# Altium footprint library NUC120全功能主板.PcbLib: 25 footprints (part 1 of 2)
Each footprint in its own frame and in the unit in brackets; x right, y up, seen from the top. Pads: shape width x height; smd on the part's side, far side on the other; paste and mask are expansions set on the pad; w line width, h text height; cw(c..) or ccw(c..) is an arc to the next point about the centre after c.
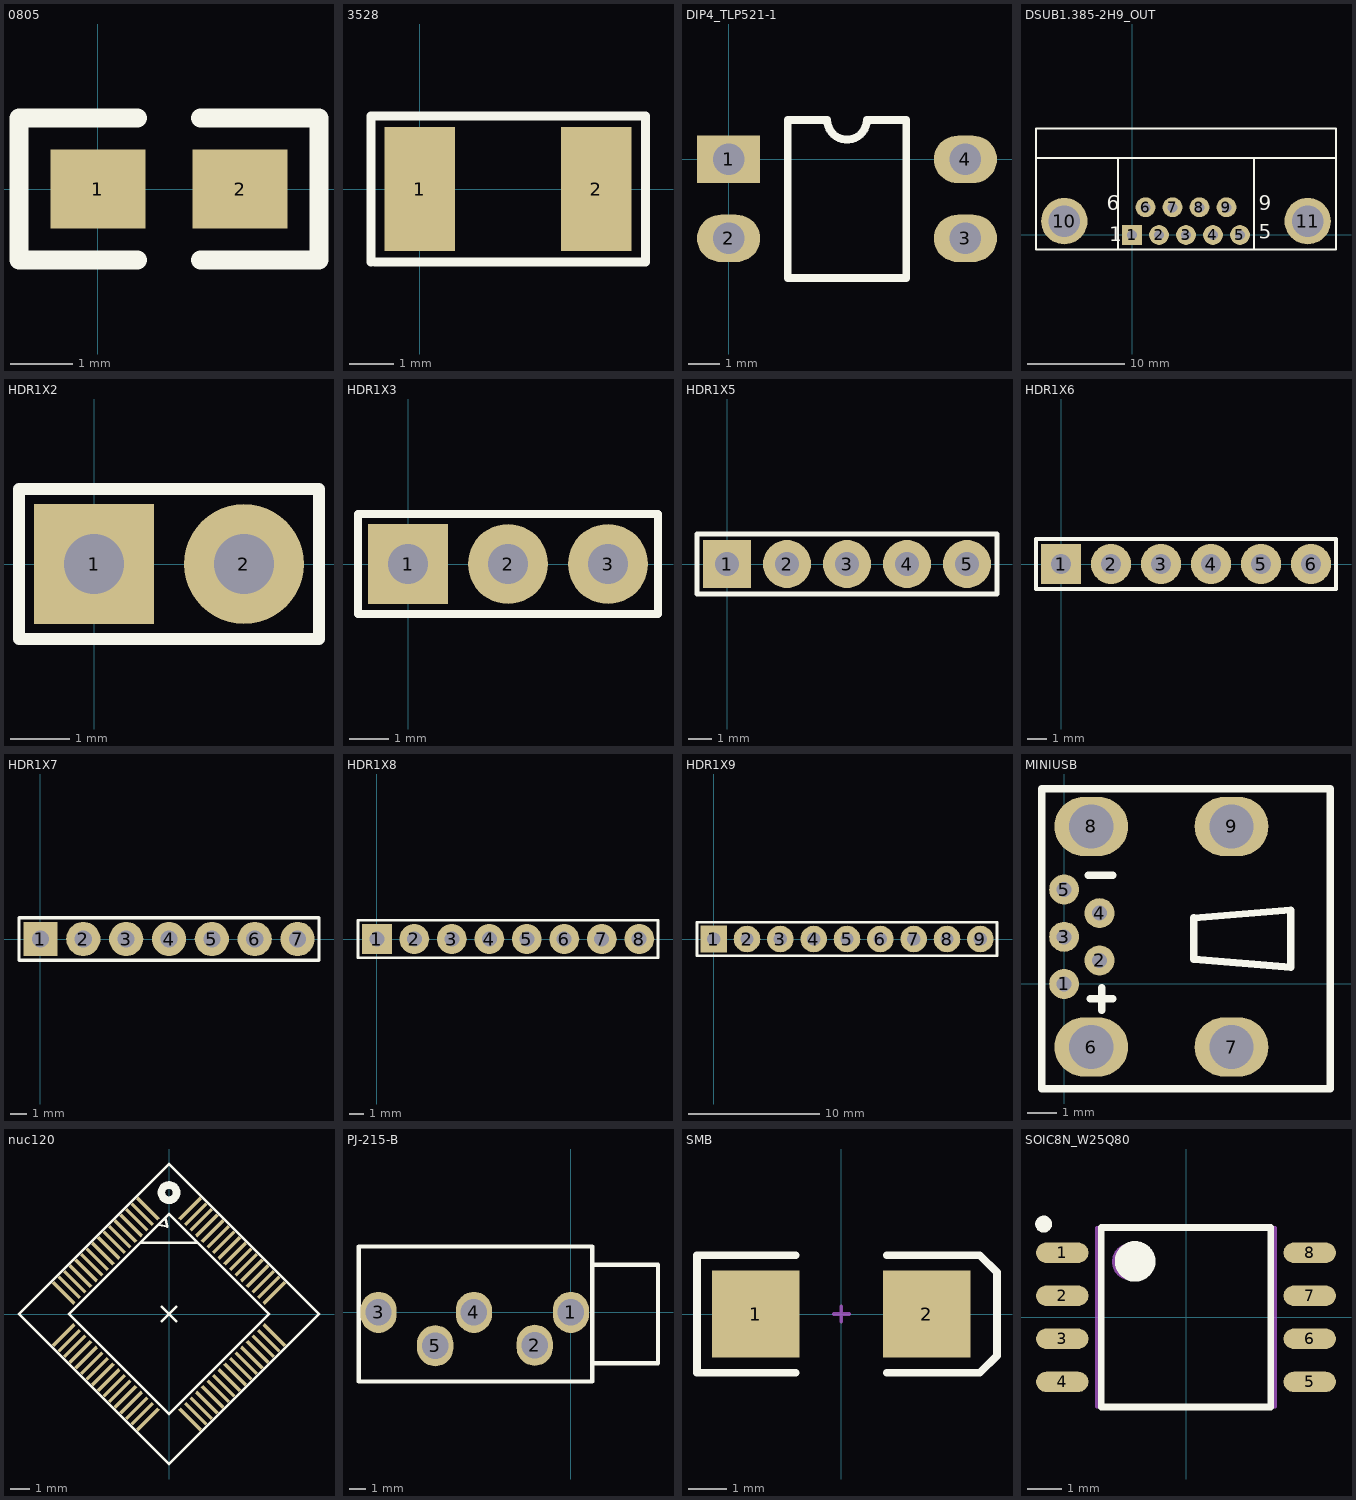
[diagram p0: the footprints below, top view; thin cyan lines are the x and y axes]

## 0805 [mil]
pads (2):
  rect 60x50 smd: 1(0,0) 2(90,0)
Top Overlay:
  lines w12: 25,-45 -50,-45 -50,45 25,45 ; 65,-45 140,-45 140,45 65,45

## 3528 [mm] "Chip Resistor; Body 3.2 x 2.5 mm (LxW typ)"
height 0.6
pads (2):
  rect 1.6x2.8 smd: 1(0,0) 2(4,0)
Top Overlay:
  lines w0.2: -1.105,-1.651 -1.105,1.651 5.08,1.651 ; -1.016,-1.651 5.08,-1.651 ; 5.118,-1.651 5.118,1.651

## DIP4_TLP521-1 [mil]
pads (4):
  rect 80x60 hole 40: 1(0,0)
  oval 80x60 hole 40: 2(0,-100) 3(300,-100) 4(300,0)
Top Overlay:
  lines w10: 75,-150 225,-150 225,50 175,50 cw(c150,50) 125,50 75,50 75,-150

## DSUB1.385-2H9_OUT [mil] "Connector; D Subminiature; 9 Position; Right Angle; Pitch 1.385 mm"
height 501.97
pads (11):
  rect 80x80 hole 40: 1(0,0)
  round 80 hole 40: 2(109.06,0) 3(218.11,0) 4(327.17,0) 5(436.22,0) 6(54.53,111.81) 7(163.58,111.81) 8(272.64,111.81) 9(381.69,111.81)
  round 187.4 hole 128.35: 10(-273.82,55.91) 11(710.04,55.91)
Top Overlay:
  lines w7.87: -388.19,311.81 824.41,311.81 ; -57.48,-58.27 -57.48,311.81 ; 493.7,-58.27 493.7,311.81 ; -388.19,-58.27 824.41,-58.27 824.41,429.92 -388.19,429.92 -388.19,-58.27
  text "6" at -101.89,99.92 h59.06
  text "9" at 513.11,99.92 h59.06
  text "5" at 513.11,-15.08 h59.06
  text "1" at -91.89,-25.08 h59.06

## HDR1X2 [mil] "Connector; Header; 2 Position"
pads (2):
  rect 80x80 hole 40: 1(0,0)
  round 80 hole 40: 2(100,0)
Top Overlay:
  lines w7.87: -50,-50 150,-50 150,50 -50,50 -50,-50

## HDR1X3 [mil] "Connector; Header; 3 Position"
pads (3):
  rect 80x80 hole 40: 1(0,0)
  round 80 hole 40: 2(100,0) 3(200,0)
Top Overlay:
  lines w7.87: -50,-50 -50,50 250,50 250,-50 -50,-50

## HDR1X5 [mil] "Connector; Header; 5 Position"
pads (5):
  rect 80x80 hole 40: 1(0,0)
  round 80 hole 40: 2(100,0) 3(200,0) 4(300,0) 5(400,0)
Top Overlay:
  lines w7.87: -50,-50 -50,50 450,50 450,-50 -50,-50

## HDR1X6 [mil] "Connector; Header; 6 Position"
pads (6):
  rect 80x80 hole 40: 1(0,0)
  round 80 hole 40: 2(100,0) 3(200,0) 4(300,0) 5(400,0) 6(500,0)
Top Overlay:
  lines w7.87: -50,-50 550,-50 550,50 -50,50 -50,-50

## HDR1X7 [mil] "Connector; Header; 7 Position"
pads (7):
  rect 80x80 hole 40: 1(0,0)
  round 80 hole 40: 2(100,0) 3(200,0) 4(300,0) 5(400,0) 6(500,0) 7(600,0)
Top Overlay:
  lines w7.87: -50,-50 650,-50 650,50 -50,50 -50,-50

## HDR1X8 [mil] "Connector; Header; 8 Position"
pads (8):
  rect 80x80 hole 40: 1(0,0)
  round 80 hole 40: 2(100,0) 3(200,0) 4(300,0) 5(400,0) 6(500,0) 7(600,0) 8(700,0)
Top Overlay:
  lines w7.87: -50,-50 -50,50 750,50 750,-50 -50,-50

## HDR1X9 [mil] "Connector; Header; 9 Position"
pads (9):
  rect 80x80 hole 40: 1(0,0)
  round 80 hole 40: 2(100,0) 3(200,0) 4(300,0) 5(400,0) 6(500,0) 7(600,0) 8(700,0) 9(800,0)
Top Overlay:
  lines w7.87: -50,-50 -50,50 850,50 850,-50 -50,-50

## MINIUSB [mm]
pads (9):
  round 1.016 hole 0.508: 1(0,0) 2(1.2,0.8) 3(0,1.6) 4(1.2,2.4) 5(0,3.2)
  oval 2.5x2 hole 1.5: 6(0.92,-2.134) 7(5.67,-2.134) 8(0.92,5.334) 9(5.67,5.334)
Top Overlay:
  lines w0.254: 0.813,3.683 1.651,3.683 ; 0.889,-0.508 1.651,-0.508 ; 1.27,-0.889 1.27,-0.127 ; -0.762,-3.556 -0.762,6.604 9.017,6.604 9.017,-3.556 -0.762,-3.556 ; 4.394,0.838 4.394,2.235 7.671,2.506 7.671,0.568 4.394,0.838

## nuc120 [mil]
pads (64):
  rect 60x7 smd rot 135: 1(-41.76,208.79) 2(-52.89,197.66) 3(-64.03,186.52) 4(-75.17,175.38) 5(-86.3,164.25) 6(-97.44,153.11) 7(-108.57,141.98) 8(-119.71,130.84) 9(-130.84,119.71) 10(-141.98,108.57) 11(-153.11,97.44) 12(-164.25,86.3) 13(-175.38,75.17) 14(-186.52,64.03) 15(-197.66,52.89) 16(-208.79,41.76) 33(41.76,-208.79) 34(52.89,-197.66) 35(64.03,-186.52) 36(75.17,-175.38) 37(86.3,-164.25) 38(97.44,-153.11) 39(108.57,-141.98) 40(119.71,-130.84) 41(130.84,-119.71) 42(141.98,-108.57) 43(153.11,-97.44) 44(164.25,-86.3) 45(175.38,-75.17) 46(186.52,-64.03) 47(197.66,-52.89) 48(208.79,-41.76)
  rect 60x7 smd rot 45: 17(-208.79,-41.76) 18(-197.66,-52.89) 19(-186.52,-64.03) 20(-175.38,-75.17) 21(-164.25,-86.3) 22(-153.11,-97.44) 23(-141.98,-108.57) 24(-130.84,-119.71) 25(-119.71,-130.84) 26(-108.57,-141.98) 27(-97.44,-153.11) 28(-86.3,-164.25) 29(-75.17,-175.38) 30(-64.03,-186.52) 31(-52.89,-197.66) 32(-41.76,-208.79) 49(208.79,41.76) 50(197.66,52.89) 51(186.52,64.03) 52(175.38,75.17) 53(164.25,86.3) 54(153.11,97.44) 55(141.98,108.57) 56(130.84,119.71) 57(119.71,130.84) 58(108.57,141.98) 59(97.44,153.11) 60(86.3,164.25) 61(75.17,175.38) 62(64.03,186.52) 63(52.89,197.66) 64(41.76,208.79)
Top Overlay:
  circle w15: c0,240.42 r15
  lines w5: -56.57,141.42 56.57,141.42 ; -21.21,176.78 -3.54,173.24 -7.45,190.66 ; -14.14,-14.14 0,0 ; -14.14,14.14 0,0 ; 14.14,-14.14 0,0 ; 14.14,14.14 0,0 ; -296.98,0 0,-296.98 296.98,0 0,296.98 -296.98,0 ; -197.99,0 0,197.99 197.99,0 0,-197.99 -197.99,0

## PJ-215-B [mm]
pads (5):
  oval 2.2x2.5 hole 1.6: 1(0,0) 2(-2.2,-2) 3(-11.7,0) 4(-5.9,0) 5(-8.255,-2.032)
Top Overlay:
  lines w0.254: 1.3,-3.1 5.3,-3.1 5.3,2.9 1.3,2.9 ; -12.9,-4.2 -12.9,4 1.3,4 1.3,-4.2 -12.9,-4.2

## SMB [mm] "DO-214-AA/SMB; 2 C-Bend Leads; Body 5.3 x 3.6 mm, inc. leads (LxW)"
height 2.54
pads (2):
  rect 2.3x2.3 smd: 1(-2.25,0) 2(2.25,0)
Top Overlay:
  lines w0.2: -1.2,-1.55 -3.8,-1.55 -3.8,1.55 -1.2,1.55 ; 1.2,-1.55 3.65,-1.55 4.1,-1.1 4.1,1.1 3.65,1.55 1.2,1.55
Mechanical 1:
  lines w0.1: -0.2,0 0.2,0 ; 0,-0.2 0,0.2

## SOIC8N_W25Q80 [mm]
pads (8):
  oval 1.55x0.6 smd: 1(-3.65,1.905) 2(-3.65,0.635) 3(-3.65,-0.635) 4(-3.65,-1.905) 5(3.65,-1.905) 6(3.65,-0.635) 7(3.65,0.635) 8(3.65,1.905)
Mid-Layer 3:
  lines w0.001: -2.64,-2.64 -2.64,2.64 2.64,2.64 2.64,-2.64 -2.64,-2.64
Top Overlay:
  circle w0.6: c-1.5,1.65 r0.3
  circle w0.25: c-4.2,2.75 r0.125
  lines w0.2: -2.5,-2.65 -2.5,2.65 2.5,2.65 2.5,-2.65 -2.5,-2.65
Mechanical 15:
  circle w0.1: c-1.64,1.64 r0.5
  lines w0.1: -2.64,-2.64 -2.64,2.64 2.64,2.64 2.64,-2.64 -2.64,-2.64